# Altium footprint library 电容.PcbLib: 174 footprints (part 6 of 11)
Each footprint in its own frame and in the unit in brackets; x right, y up, seen from the top. Pads: shape width x height; smd on the part's side, far side on the other; paste and mask are expansions set on the pad; w line width, h text height; cw(c..) or ccw(c..) is an arc to the next point about the centre after c.
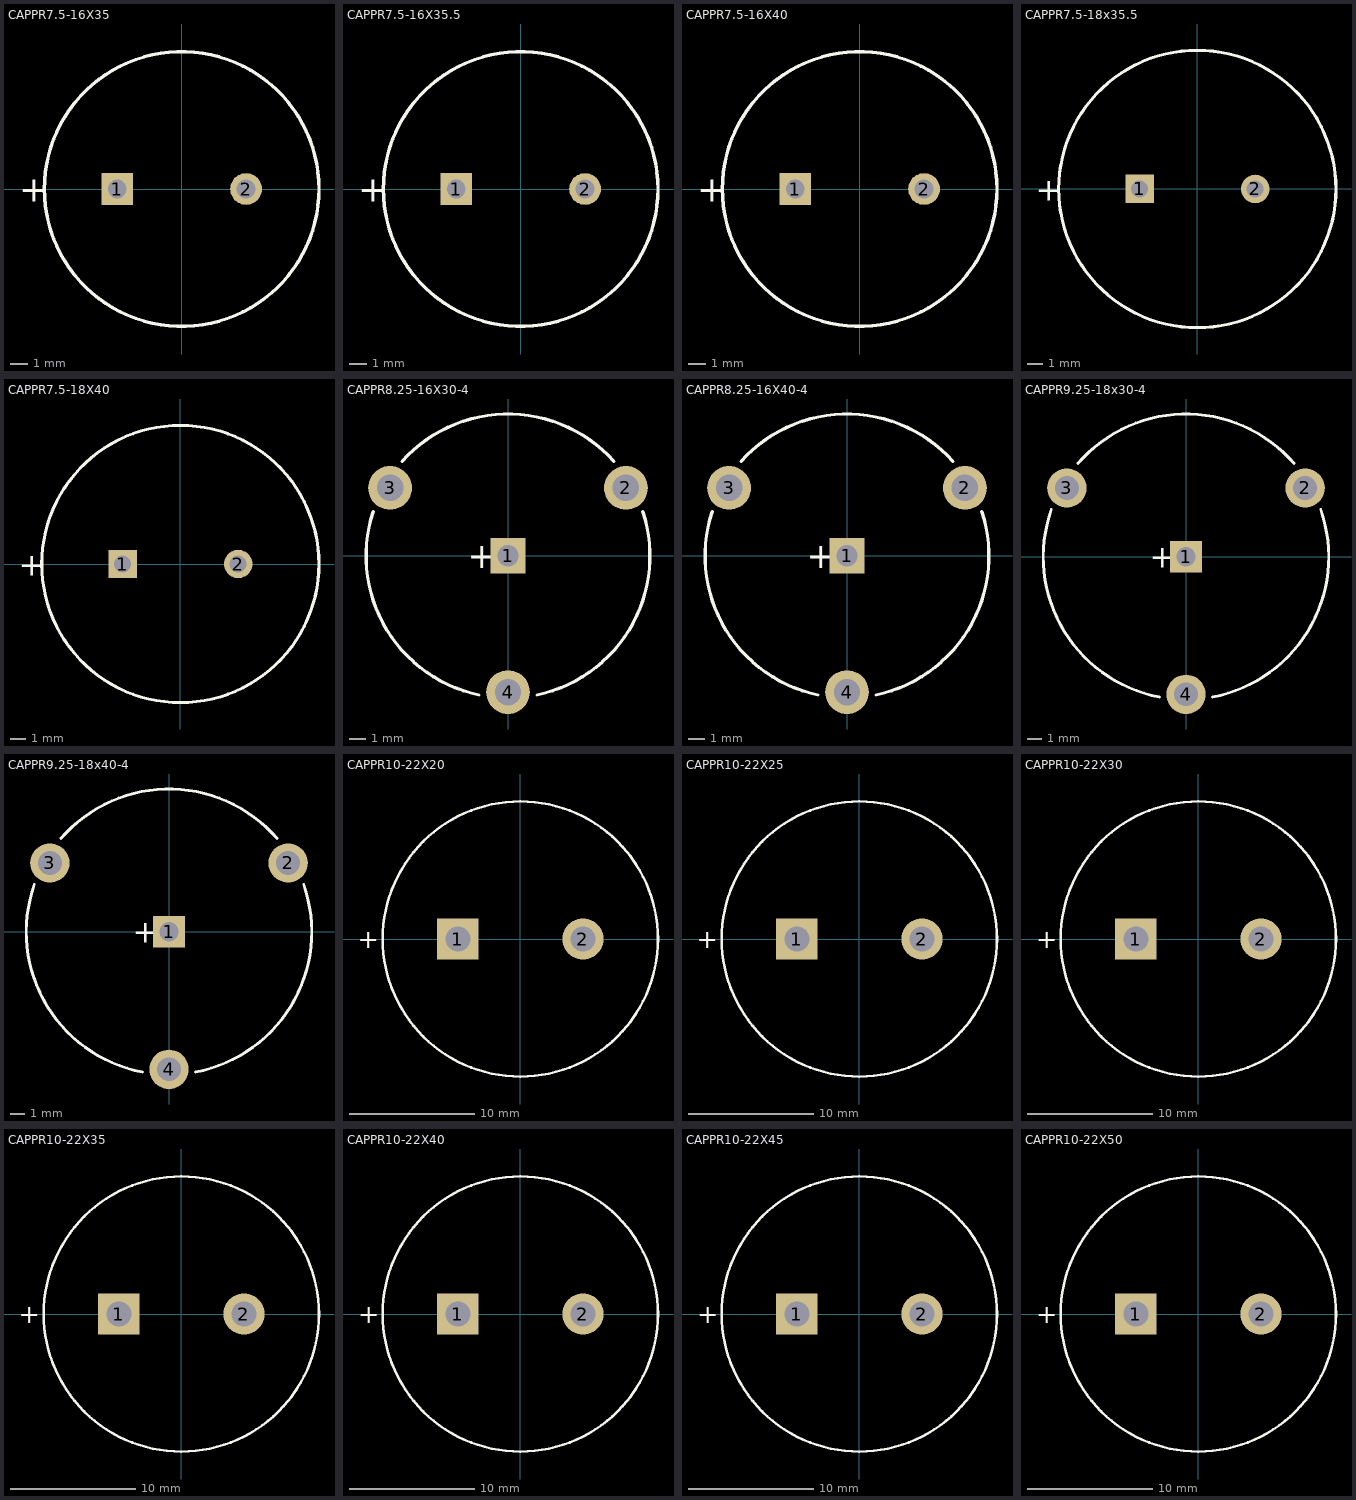
[diagram p5: the footprints below, top view; thin cyan lines are the x and y axes]

## CAPPR7.5-16X35 [mm]
pads (2):
  rect 1.85x1.85 hole 1.1: 1(-3.75,0)
  round 1.85 hole 1.1: 2(3.75,0)
Top Overlay:
  circle w0.2: c0,0 r8
  text "+" at -9.475,-0.75 h1.5
3D body: height 35, standoff 0.5, extent -7.999,-7.999 7.999,7.999

## CAPPR7.5-16X35.5 [mm]
pads (2):
  rect 1.85x1.85 hole 1.1: 1(-3.75,0)
  round 1.85 hole 1.1: 2(3.75,0)
Top Overlay:
  circle w0.2: c0,0 r8
  text "+" at -9.475,-0.75 h1.5
3D body: height 35.5, standoff 0.5, extent -7.999,-7.999 7.999,7.999

## CAPPR7.5-16X40 [mm]
pads (2):
  rect 1.85x1.85 hole 1.1: 1(-3.75,0)
  round 1.85 hole 1.1: 2(3.75,0)
Top Overlay:
  circle w0.2: c0,0 r8
  text "+" at -9.475,-0.75 h1.5
3D body: height 40, standoff 0.5, extent -7.999,-7.999 7.999,7.999

## CAPPR7.5-18x35.5 [mm]
pads (2):
  rect 1.85x1.85 hole 1.1: 1(-3.75,0)
  round 1.85 hole 1.1: 2(3.75,0)
Top Overlay:
  circle w0.2: c-0.004,-0.001 r9
  text "+" at -10.475,-0.75 h1.5
3D body: height 35.5, standoff 0.5, extent -9.003,-9 8.995,8.998

## CAPPR7.5-18X40 [mm]
pads (2):
  rect 1.85x1.85 hole 1.1: 1(-3.75,0)
  round 1.85 hole 1.1: 2(3.75,0)
Top Overlay:
  circle w0.2: c0,0 r9
  text "+" at -10.475,-0.75 h1.5
3D body: height 40, standoff 0.5, extent -8.999,-8.999 8.999,8.999

## CAPPR8.25-16X30-4 [mm]
pads (4):
  rect 2.15x2.15 hole 1.3: 1(0,0)
  round 2.65 hole 1.6: 2(7.145,4.125) 3(-7.145,4.125) 4(0,-8.25)
Top Overlay:
  lines w0.2: -8.168,2.692 ccw(c0,0) -1.752,-8.42 ; -6.415,5.727 cw(c0,0) 6.415,5.727 ; 1.752,-8.42 ccw(c0,0) 8.168,2.692
  text "+" at -2.45,-0.75 h1.5

## CAPPR8.25-16X40-4 [mm]
pads (4):
  rect 2.15x2.15 hole 1.3: 1(0,0)
  round 2.65 hole 1.6: 2(7.145,4.125) 3(-7.145,4.125) 4(0,-8.25)
Top Overlay:
  lines w0.2: -8.168,2.692 ccw(c0,0) -1.752,-8.42 ; -6.415,5.727 cw(c0,0) 6.415,5.727 ; 1.752,-8.42 ccw(c0,0) 8.168,2.692
  text "+" at -2.45,-0.75 h1.5

## CAPPR9.25-18x30-4 [mm]
pads (4):
  rect 2.15x2.15 hole 1.3: 1(0,0)
  round 2.65 hole 1.6: 2(8.011,4.625) 3(-8.011,4.625) 4(0,-9.25)
Top Overlay:
  lines w0.2: -9.062,3.17 ccw(c0,0) -1.786,-9.432 ; -7.276,6.263 cw(c0,0) 7.276,6.263 ; 1.786,-9.432 ccw(c0,0) 9.062,3.17
  text "+" at -2.45,-0.75 h1.5

## CAPPR9.25-18x40-4 [mm]
pads (4):
  rect 2.15x2.15 hole 1.3: 1(0,0)
  round 2.65 hole 1.6: 2(8.011,4.625) 3(-8.011,4.625) 4(0,-9.25)
Top Overlay:
  lines w0.2: -9.062,3.17 ccw(c0,0) -1.786,-9.432 ; -7.276,6.263 cw(c0,0) 7.276,6.263 ; 1.786,-9.432 ccw(c0,0) 9.062,3.17
  text "+" at -2.45,-0.75 h1.5

## CAPPR10-22X20 [mm]
pads (2):
  rect 3.3x3.3 hole 2: 1(-5,0)
  round 3.3 hole 2: 2(5,0)
Top Overlay:
  circle w0.2: c0,0 r11
  text "+" at -12.975,-0.75 h1.5
3D body: height 20, standoff 0.5, extent -10.999,-10.999 10.999,10.999

## CAPPR10-22X25 [mm]
pads (2):
  rect 3.3x3.3 hole 2: 1(-5,0)
  round 3.3 hole 2: 2(5,0)
Top Overlay:
  circle w0.2: c0,0 r11
  text "+" at -12.975,-0.75 h1.5
3D body: height 25, standoff 0.5, extent -10.999,-10.999 10.999,10.999

## CAPPR10-22X30 [mm]
pads (2):
  rect 3.3x3.3 hole 2: 1(-5,0)
  round 3.3 hole 2: 2(5,0)
Top Overlay:
  circle w0.2: c0,0 r11
  text "+" at -12.975,-0.75 h1.5
3D body: height 30, standoff 0.5, extent -10.999,-10.999 10.999,10.999

## CAPPR10-22X35 [mm]
pads (2):
  rect 3.3x3.3 hole 2: 1(-5,0)
  round 3.3 hole 2: 2(5,0)
Top Overlay:
  circle w0.2: c0,0 r11
  text "+" at -12.975,-0.75 h1.5
3D body: height 35, standoff 0.5, extent -10.999,-10.999 10.999,10.999

## CAPPR10-22X40 [mm]
pads (2):
  rect 3.3x3.3 hole 2: 1(-5,0)
  round 3.3 hole 2: 2(5,0)
Top Overlay:
  circle w0.2: c0,0 r11
  text "+" at -12.975,-0.75 h1.5
3D body: height 40, standoff 0.5, extent -10.999,-10.999 10.999,10.999

## CAPPR10-22X45 [mm]
pads (2):
  rect 3.3x3.3 hole 2: 1(-5,0)
  round 3.3 hole 2: 2(5,0)
Top Overlay:
  circle w0.2: c0,0 r11
  text "+" at -12.975,-0.75 h1.5
3D body: height 45, standoff 0.5, extent -10.999,-10.999 10.999,10.999

## CAPPR10-22X50 [mm]
pads (2):
  rect 3.3x3.3 hole 2: 1(-5,0)
  round 3.3 hole 2: 2(5,0)
Top Overlay:
  circle w0.2: c0,0 r11
  text "+" at -12.975,-0.75 h1.5
3D body: height 50, standoff 0.5, extent -10.999,-10.999 10.999,10.999